# EAGLE library part OPA569 (library ardustat)
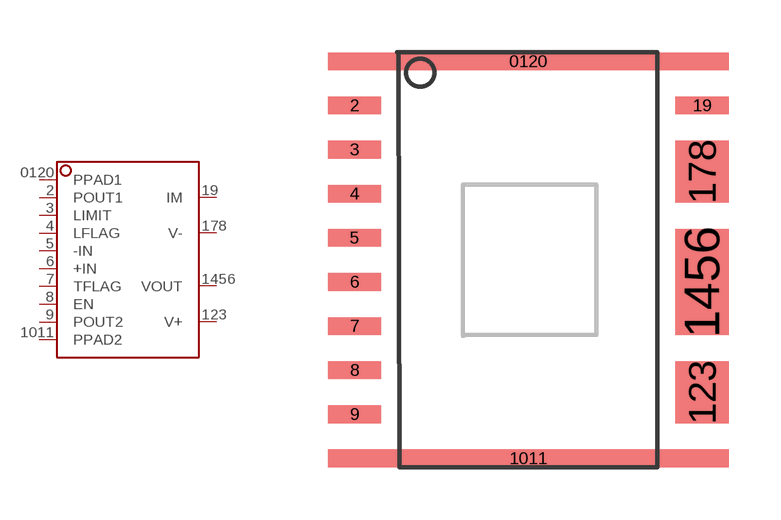
[diagram p8: symbol with the pads of OPA569; footprint OPA569]

Designator prefix -

## OPA569OPA569  [OPA569]
2  POUT1
3  LIMIT
4  LFLAG
5  -IN
6  +IN
7  TFLAG
8  EN
9  POUT2
19  IM
0120  PPAD1
123  V+
178  V-
1011  PPAD2
1456  VOUT

## Footprint OPA569 (pad centres in mm)
smd 1.53 x 0.51: 2 -5,4.343; 3 -5,3.073; 4 -5,1.803; 5 -5,0.533; 6 -5,-0.737; 7 -5,-2.007; 8 -5,-3.277; 9 -5,-4.547; 19 5,4.343
smd 11.53 x 0.51: 0120 0,5.613; 1011 0,-5.817
smd 1.53 x 1.781: 123 5,-3.913; 178 5,2.438
smd 1.53 x 3.051: 1456 5,-0.738